# Altium schematic symbol library telefunken.SCHLIB: 5 symbols
Pins are listed as number, name and electrical type; pins without a type are passive.

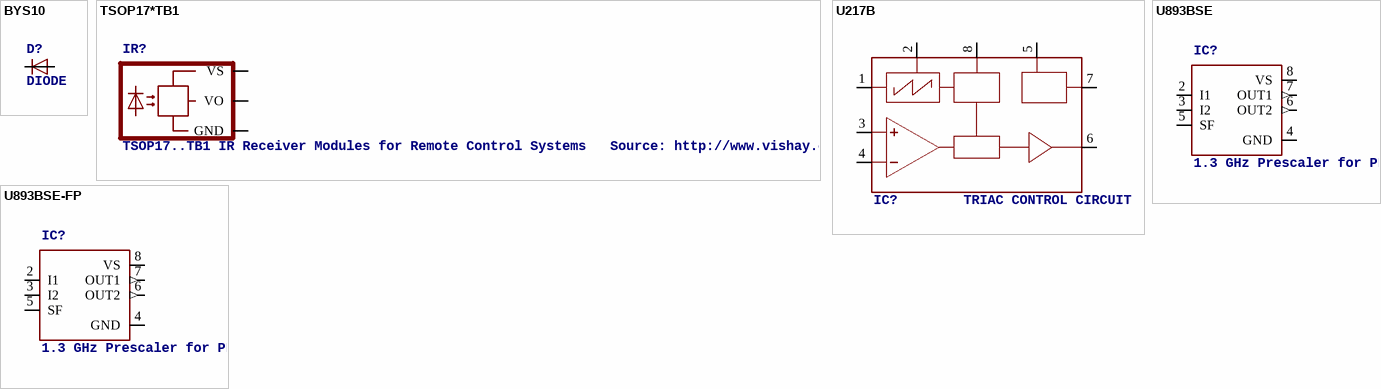
[diagram p0: symbols BYS10 to U893BSE-FP]

## BYS10
designator D?, comment DIODE
MPN: BYS10/45; OC_FARNELL: 9549188; OC_NEWARK: 96K7236
footprint SOD106A
pins: A, K

## TSOP17*TB1
designator IR?, comment TSOP17..TB1 IR Receiver Modules for Remote Control Systems   Source: http://www.vishay.com/docs/82042/82042.pdf
OC_FARNELL: unknown; OC_NEWARK: unknown
footprint TSOP17_TB1
pins: GND (power), VO (oc), VS (power)

## U217B
designator IC?, comment TRIAC CONTROL CIRCUIT
OC_FARNELL: unknown; OC_NEWARK: unknown
footprint DIL08
pins: 1 RI, 2 RO, 3 +, 4 -, 5 VS, 6 PO, 7 VN, 8 SY

## U893BSE
designator IC?, comment 1.3 GHz Prescaler for PLL?s in TV, CATV and SAT TV Tuners   Source: TELEFUNKEN .. U893.pdf
OC_FARNELL: unknown; OC_NEWARK: unknown
footprint DIL08
pins: 2 I1, 3 I2, 4 GND (power), 5 SF, 6 OUT2 (out), 7 OUT1 (out), 8 VS (power)

## U893BSE-FP
designator IC?, comment 1.3 GHz Prescaler for PLL?s in TV, CATV and SAT TV Tuners   Source: TELEFUNKEN .. U893.pdf
OC_FARNELL: unknown; OC_NEWARK: unknown
footprint SO08
pins: 2 I1, 3 I2, 4 GND (power), 5 SF, 6 OUT2 (out), 7 OUT1 (out), 8 VS (power)